# Altium footprint library Bridge.PcbLib: 9 footprints
Each footprint in its own frame and in the unit in brackets; x right, y up, seen from the top. Pads: shape width x height; smd on the part's side, far side on the other; paste and mask are expansions set on the pad; w line width, h text height; cw(c..) or ccw(c..) is an arc to the next point about the centre after c.
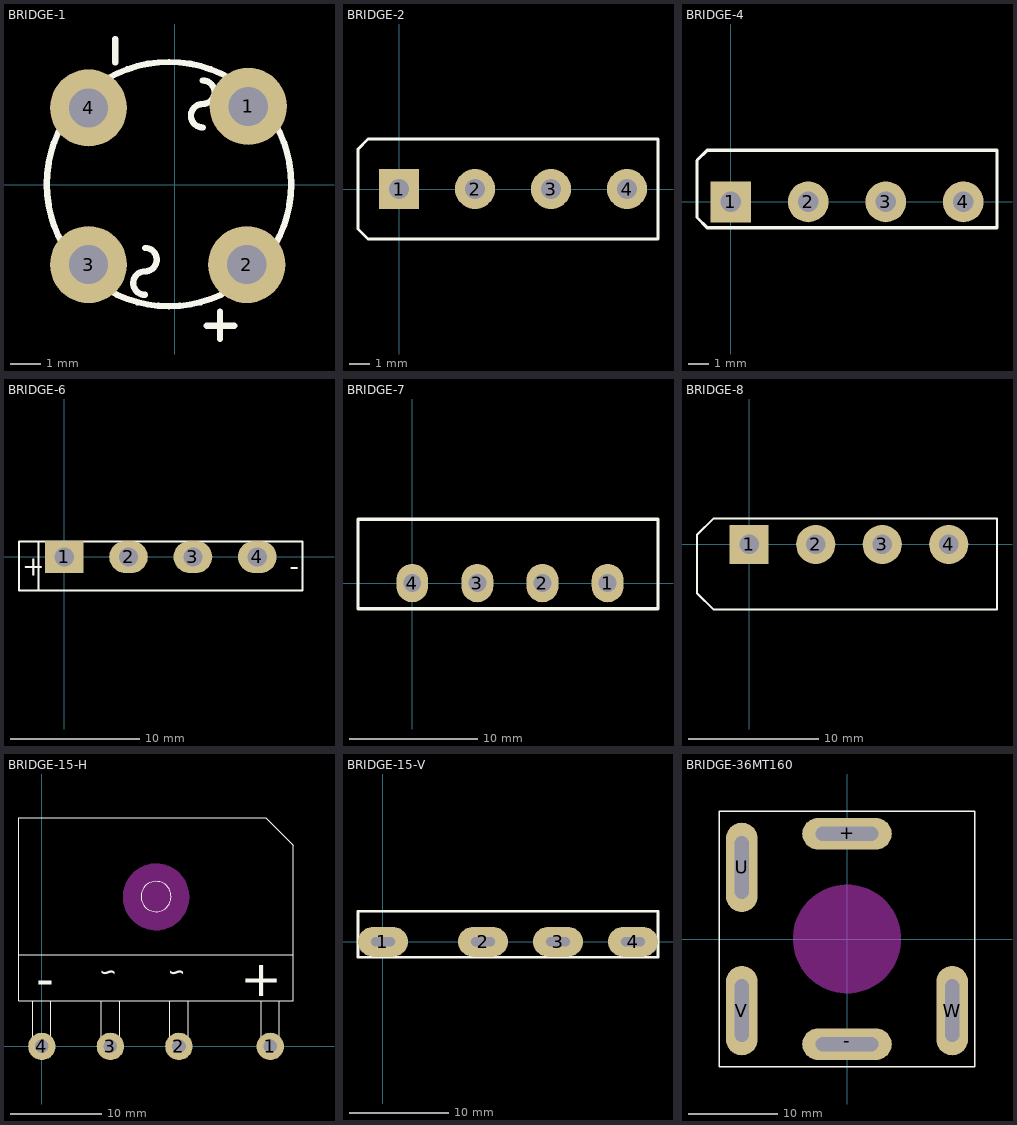
[diagram p0: the footprints below, top view; thin cyan lines are the x and y axes]

## BRIDGE-1 [mm]
pads (4):
  round 2.5 hole 1.27: 1(2.388,2.54) 2(2.337,-2.591) 3(-2.794,-2.591) 4(-2.794,2.489)
Top Overlay:
  circle w0.203: c-0.184,0.018 r3.962
  lines w0.203: -1.93,3.962 -1.93,4.724 ; -0.963,-3.573 cw(c-0.963,-3.192) -0.963,-2.811 ccw(c-0.963,-2.43) -0.963,-2.049 ; 0.91,1.856 cw(c0.91,2.237) 0.91,2.618 ccw(c0.91,2.999) 0.91,3.38 ; 1.041,-4.572 1.93,-4.572 ; 1.473,-5.004 1.473,-4.115
3D body: height 7.62, standoff -10.38, extent -4.724,-4.449 4.276,4.551

## BRIDGE-2 [mm]
pads (4):
  rect 2x2 hole 1: 1(0,0)
  round 2 hole 1: 2(3.8,0) 3(7.6,0) 4(11.4,0)
Top Overlay:
  lines w0.15: -2.053,-1.997 -1.55,-2.5 12.95,-2.5 12.95,2.5 -1.55,2.5 -2.047,2.003 -2.053,2.003 -2.053,-1.997 ; -2.053,-1.997 -2.053,-1.997
3D body: height 12.59, standoff -13.79, extent -1.477,-2.419 13.243,2.425

## BRIDGE-4 [mm]
pads (4):
  rect 2x2 hole 1: 1(0,0)
  round 2 hole 1: 2(3.8,0) 3(7.6,0) 4(11.4,0)
Top Overlay:
  lines w0.15: -1.65,-0.767 -1.65,2.033 -1.153,2.53 13.05,2.53 13.05,-1.27 -1.147,-1.27 -1.65,-0.767
3D body: height 12.09, standoff -4.09, extent -1.665,-1.27 13.065,2.53

## BRIDGE-6 [mm]
pads (4):
  rect 3x2.5 hole 1.5: 1(0,0)
  oval 3x2.5 hole 1.5: 2(5,0) 3(10,0) 4(15,0)
Top Overlay:
  lines w0.15: -2,-2.6 -2,1.2 ; -3.5,-2.6 18.5,-2.6 18.5,1.2 -3.5,1.2 -3.5,-2.6
  text "+" at -3.261,-1.462 h1.52
  text "-" at 18.261,-1.462 h1.52
3D body: height 21, standoff -15.63, extent -3.65,-2.58 18.65,1.18

## BRIDGE-7 [mm]
pads (4):
  oval 2.5x3 hole 1.4: 1(15.3,0) 2(10.2,0) 3(5.1,0) 4(0,0)
Top Overlay:
  lines w0.254: -4.25,-2 -4.25,5 19.25,5 19.25,-2 -4.25,-2
3D body: height 15.25, standoff -5.25, extent -2.921,-1.143 17.879,2.357

## BRIDGE-8 [mm]
pads (4):
  rect 3x3 hole 1.5: 1(0,0)
  round 3 hole 1.5: 2(5.1,0) 3(10.2,0) 4(15.3,0)
Top Overlay:
  lines w0.15: -2.725,-5.001 -4,-3.726 -4,0.725 -2.725,2 19,2 19,-5 -2.725,-5
3D body: height 19.74, standoff -27.96, extent -4.064,-5.075 19.65,2.027

## BRIDGE-15-H [mm]
pads (4):
  round 3 hole 1.5: 1(25,0) 2(15,0) 3(7.5,0) 4(0,0)
Top Overlay:
  circle w0.1: c12.5,16.4 r1.65
  lines w0.1: -2.5,10 27.5,10 ; -1,5 -1,1 -0.5,0.5 0.5,0.5 1,1 1,5 ; 6.5,5 6.5,1 7,0.5 8,0.5 8.5,1 8.5,5 ; 14,5 14,1 14.5,0.5 15.5,0.5 16,1 16,5 ; 24,5 24,1 24.5,0.5 25.5,0.5 26,1 26,5 ; 24.5,25 27.5,22 27.5,5 -2.5,5 -2.5,25 24.5,25 ; 24.5,25 24.5,25
  text "～" at 8.833,6.18 h4
  text "+" at 26.333,5.501 h4
  text "～" at 16.333,6.18 h4
  text "-" at 1.333,5.501 h4
Keep-Out Layer:
  circle w0.1: c12.5,16.357 r3.6
  board cut-out: 8.889,16.363 8.933,16.926 9.065,17.475 9.282,17.997 9.577,18.479 9.944,18.908 10.373,19.275 10.855,19.571 11.377,19.787 11.926,19.919 12.489,19.963 12.489,19.952 12.51,19.963 13.073,19.919 13.623,19.787 14.145,19.57 14.627,19.275 15.056,18.908 15.423,18.479 15.719,17.997 15.935,17.475 16.067,16.925 16.111,16.362 16.067,15.797 15.934,15.246 15.718,14.722 15.422,14.239 15.054,13.808 14.623,13.44 14.139,13.144 13.616,12.927 13.065,12.795 12.5,12.751 12.5,12.762 12.48,12.751 11.918,12.795 11.37,12.927 10.85,13.142 10.369,13.437 9.941,13.803 9.575,14.231 9.281,14.711 9.065,15.232 8.933,15.78 8.889,16.342 8.9,16.342
3D body: height 10, standoff -4.15, extent -2.5,-0.347 27.5,26.403

## BRIDGE-15-V [mm]
pads (4):
  oval 5x3 hole 0.9 slot 2.4 at 0 deg: 1(0,0) 2(10,0) 3(17.5,0) 4(25,0)
Top Overlay:
  lines w0.254: -2.5,-1.55 -2.5,3.05 27.5,3.05 27.5,-1.55 -2.5,-1.55
3D body: height 24, standoff -13.5, extent -2.5,-1.55 27.5,3.05

## BRIDGE-36MT160 [mm]
pads (5):
  oval 10x3.5 hole 1.6 slot 7 at 0 deg: +(0,11.75) -(0,-11.75)
  oval 3.5x10 hole 1.6 slot 7 at 90 deg: U(-11.75,7.989) V(-11.75,-7.989) W(11.75,-7.989)
Top Overlay:
  lines w0.15: -14.25,-14.25 -14.25,14.25 14.25,14.25 14.25,-14.25 -14.25,-14.25
Keep-Out Layer:
  circle w0.1: c0,0 r6
  board cut-out: 6.011,0.006 5.973,0.678 5.86,1.342 5.674,1.989 5.416,2.611 5.09,3.2 4.701,3.75 4.252,4.252 3.75,4.7 3.201,5.09 2.611,5.416 1.989,5.673 1.342,5.86 0.678,5.973 0.006,6.01 0.006,6.001 -0.103,6.014 -0.874,5.963 -1.632,5.812 -2.364,5.564 -3.057,5.222 -3.699,4.793 -4.28,4.283 -4.79,3.702 -5.219,3.06 -5.561,2.367 -5.809,1.635 -5.96,0.877 -6.011,0.106 -5.998,0.106 -6.007,0.006 -5.97,-0.668 -5.856,-1.334 -5.67,-1.982 -5.411,-2.606 -5.085,-3.197 -4.694,-3.747 -4.244,-4.25 -3.741,-4.7 -3.19,-5.091 -2.6,-5.417 -1.976,-5.676 -1.327,-5.863 -0.662,-5.976 0.012,-6.014 0.012,-6.004 0.017,-6.014 0.688,-5.976 1.351,-5.863 1.997,-5.677 2.618,-5.42 3.206,-5.095 3.754,-4.706 4.255,-4.258 4.703,-3.757 5.092,-3.209 5.417,-2.621 5.674,-2 5.86,-1.354 5.973,-0.691 6.011,-0.02 6.001,-0.02
Mechanical 1:
  lines w0.1: -12.55,-10.989 ccw(c-11.75,-10.989) -10.95,-10.989 -10.95,-4.989 ccw(c-11.75,-4.989) -12.55,-4.989 -12.55,-10.989 ; -12.55,4.989 ccw(c-11.75,4.989) -10.95,4.989 -10.95,10.989 ccw(c-11.75,10.989) -12.55,10.989 -12.55,4.989 ; -3,-12.55 cw(c-3,-11.75) -3,-10.95 3,-10.95 cw(c3,-11.75) 3,-12.55 -3,-12.55 ; -3,10.95 cw(c-3,11.75) -3,12.55 3,12.55 cw(c3,11.75) 3,10.95 -3,10.95 ; 10.95,-10.989 ccw(c11.75,-10.989) 12.55,-10.989 12.55,-4.989 ccw(c11.75,-4.989) 10.95,-4.989 10.95,-10.989
3D body: height 10.5, standoff -10.5, extent -14.25,-14.25 14.25,14.25